# Altium footprint library BD5244FVE-TR.PcbLib: 3 footprints
Each footprint in its own frame and in the unit in brackets; x right, y up, seen from the top. Pads: shape width x height; smd on the part's side, far side on the other; paste and mask are expansions set on the pad; w line width, h text height; cw(c..) or ccw(c..) is an arc to the next point about the centre after c.
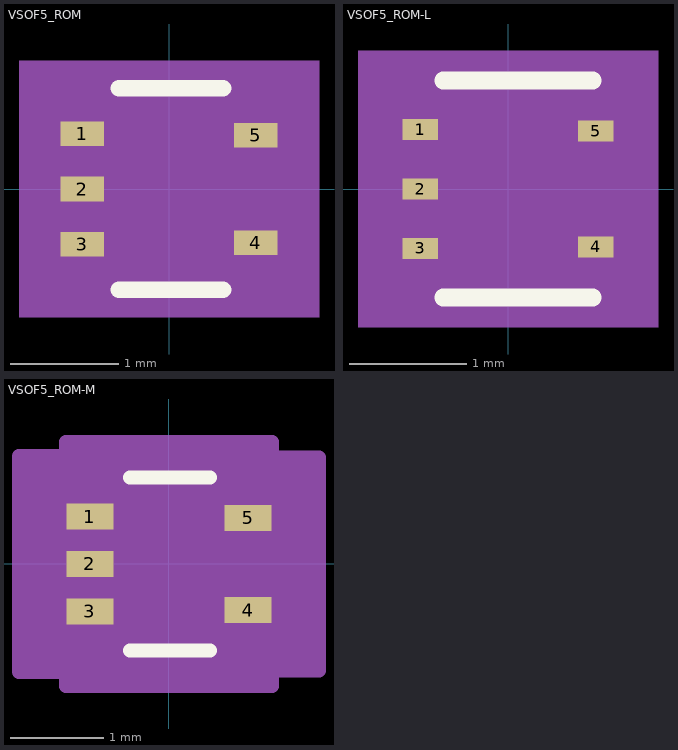
[diagram p0: the footprints below, top view; thin cyan lines are the x and y axes]

## VSOF5_ROM [mil]
pads (5):
  rect 15.87x9 smd paste+0 mask+0: 1(-31.44,20) 2(-31.44,0) 3(-31.44,-20) 4(31.44,-19.5) 5(31.44,19.5)
Top Overlay:
  lines w6: -18.25,-36.5 19.58,-36.5 ; -18.25,36.5 19.58,36.5
Mechanical 5:
  region: 54.37,-46.5 -54.37,-46.5 -54.37,46.5 54.37,46.5
Mechanical 13:
  circle w0: c-23.5,20 r3
  lines w0: -12,31.5 ccw(c0,31.5) 12,31.5
  lines w1: -23.5,-31.5 -23.5,31.5 23.5,31.5 23.5,-31.5 -23.5,-31.5
Mechanical 15:
  region: 33.5,-41.5 -33.5,-41.5 -33.5,-34.5 -49.37,-34.5 -49.37,34.5 -33.5,34.5 -33.5,41.5 33.5,41.5 33.5,34 49.37,34 49.37,-34 33.5,-34
  lines w6: -49.37,-34.5 -49.37,34.5 -33.5,34.5 -33.5,41.5 33.5,41.5 33.5,34 49.37,34 49.37,-34 33.5,-34 33.5,-41.5 -33.5,-41.5 -33.5,-34.5 -49.37,-34.5
3D body "VSOF5_ROM.step": height 24.09, standoff 0, extent -31.5,-31.5 31.5,31.5
3D body "VSOF5_ROM.step": height 24.09, standoff 0, extent -31.5,-31.5 31.5,31.5

## VSOF5_ROM-L [mil]
pads (5):
  rect 11.94x7.03 smd paste+0 mask+0: 1(-29.47,20) 2(-29.47,0) 3(-29.47,-20) 4(29.47,-19.5) 5(29.47,19.5)
Top Overlay:
  lines w6: -21.76,-36.5 28.5,-36.5 ; -21.76,36.5 28.5,36.5
Mechanical 5:
  region: 50.44,-46.5 -50.44,-46.5 -50.44,46.5 50.44,46.5
Mechanical 13:
  circle w0: c-23.5,20 r3
  lines w0: -12,31.5 ccw(c0,31.5) 12,31.5
  lines w1: -23.5,-31.5 23.5,-31.5 23.5,31.5 -23.5,31.5 -23.5,-31.5
Mechanical 15:
  region: 27.5,-35.5 -27.5,-35.5 -27.5,-27.52 -39.44,-27.52 -39.44,27.52 -27.5,27.52 -27.5,35.5 27.5,35.5 27.5,27.02 39.44,27.02 39.44,-27.02 27.5,-27.02
  lines w6: -39.44,-27.52 -27.5,-27.52 -27.5,-35.5 27.5,-35.5 27.5,-27.02 39.44,-27.02 39.44,27.02 27.5,27.02 27.5,35.5 -27.5,35.5 -27.5,27.52 -39.44,27.52 -39.44,-27.52
3D body "VSOF5_ROM.step": height 24.09, standoff 0, extent -31.5,-31.5 31.5,31.5

## VSOF5_ROM-M [mil]
pads (5):
  rect 19.81x10.97 smd paste+0 mask+0: 1(-33.41,20) 2(-33.41,0) 3(-33.41,-20) 4(33.41,-19.5) 5(33.41,19.5)
Top Overlay:
  lines w6: -16.41,-36.5 17.26,-36.5 ; -16.41,36.5 17.26,36.5
Mechanical 5:
  region: 58.31,-46.5 -58.31,-46.5 -58.31,46.5 58.31,46.5
Mechanical 13:
  circle w0: c-23.5,20 r3
  lines w0: -12,31.5 ccw(c0,31.5) 12,31.5
  lines w1: -23.5,-31.5 23.5,-31.5 23.5,31.5 -23.5,31.5 -23.5,-31.5
Mechanical 15:
  region: 43.5,-51.5 -43.5,-51.5 -43.5,-45.48 -63.31,-45.48 -63.31,45.48 -43.5,45.48 -43.5,51.5 43.5,51.5 43.5,44.98 63.31,44.98 63.31,-44.98 43.5,-44.98
  lines w6: -63.31,-45.48 -43.5,-45.48 -43.5,-51.5 43.5,-51.5 43.5,-44.98 63.31,-44.98 63.31,44.98 43.5,44.98 43.5,51.5 -43.5,51.5 -43.5,45.48 -63.31,45.48 -63.31,-45.48
3D body "VSOF5_ROM.step": height 24.09, standoff 0, extent -31.5,-31.5 31.5,31.5